# Altium schematic symbol library DIODE.SchLib: 1 symbol
Pins are listed as number, name and electrical type; pins without a type are passive.

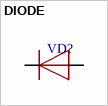
[diagram p0: symbol DIODE]

## DIODE
designator VD?
footprint FR207
pins: 1 C, 2 A